# Altium schematic symbol library PS004.SCHLIB: 15 symbols
Pins are listed as number, name and electrical type; pins without a type are passive.

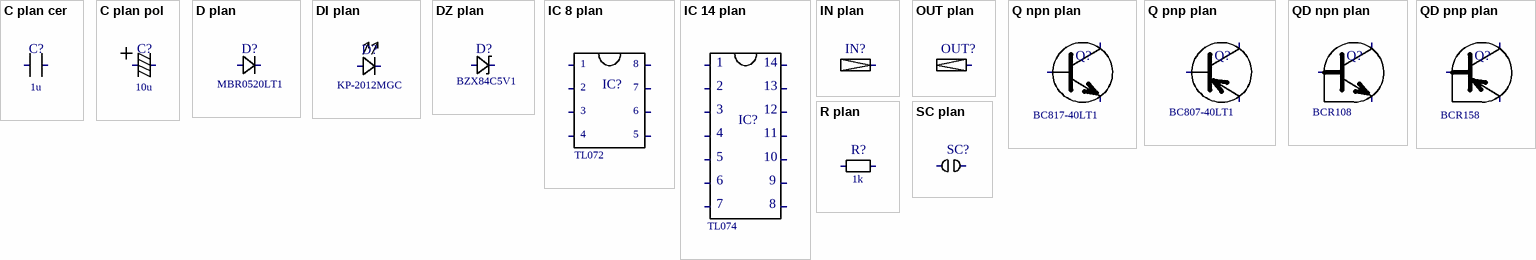
[diagram p0: symbols C plan cer to SC plan]

## C plan cer
designator C?  Capasitance: 1u  (hidden comment: *)
footprint 0805
footprint 1210
pins: 1, 2

## C plan pol
designator C?  Capasitance: 10u  (hidden comment: *)
footprint C
pins: 1, 2

## D plan
designator D?  Name: MBR0520LT1  (hidden comment: *)
footprint SOD-123
pins: 1, 2

## DI plan
designator D?  Name: KP-2012MGC  (hidden comment: *)
footprint 0805 DI
pins: 1, 2

## DZ plan
designator D?  Name: BZX84C5V1  (hidden comment: *)
footprint SOT-23
pins: 1, 2

## IC 8 plan
designator IC?  Name: TL072  (hidden comment: *)
footprint SO-8
pins: 1, 2, 3, 4, 5, 6, 7, 8

## IC 14 plan
designator IC?  Name: TL074  (hidden comment: *)
footprint SO-14
pins: 1, 2, 3, 4, 5, 6, 7, 8, 9, 10, 11, 12, 13, 14

## IN plan
designator IN?  (value not drawn)
footprint IO
footprint IOEX
pins: 1

## OUT plan
designator OUT?  (value not drawn)
footprint IO
footprint IOEX
pins: 1

## Q npn plan
designator Q?  Name: BC817-40LT1  (hidden comment: *)
footprint SOT-23
footprint SOT-223
pins: 1, 2, 3

## Q pnp plan
designator Q?  Name: BC807-40LT1  (hidden comment: *)
footprint SOT-223
footprint SOT-23
pins: 1, 2, 3

## QD npn plan
designator Q?  Name: BCR108  (hidden comment: *)
footprint SOT-23
footprint SOT-223
pins: 1, 2, 3

## QD pnp plan
designator Q?  Name: BCR158  (hidden comment: *)
footprint SOT-23
footprint SOT-223
pins: 1, 2, 3

## R plan
designator R?  Resistance: 1k  (hidden comment: *)
footprint 0805
footprint 1210
pins: 1, 2

## SC plan
designator SC?  (value not drawn)
footprint SC
pins: 1, 2